# Altium integrated library industrial_fiberoptics.IntLib: 1 symbol
Pins are listed as number, name and electrical type; pins without a type are passive.

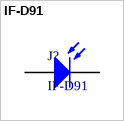
[diagram p0: symbol IF-D91]

## IF-D91
designator J?
PHOTODIODE FIBER OPTIC PLASTIC
footprint IF-D91 (PHOTODIODE FIBER OPTIC PLASTIC)
pins: 1 A, 2 K